# EAGLE library part MEMS_12 (library Bits_library_eagle)
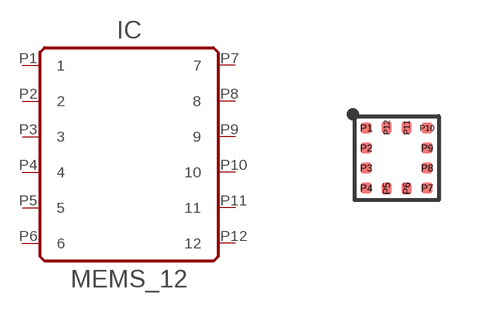
[diagram p20: symbol with the pads of LGA-12; footprint LGA-12]

Designator prefix IC

## MEMS_12  [LGA-12]
P1  1
P2  2
P3  3
P4  4
P5  5
P6  6
P7  7
P8  8
P9  9
P10  10
P11  11
P12  12

## Footprint LGA-12 (pad centres in mm)
smd 0.275 x 0.25: P1 -0.762,0.75; P2 -0.762,0.25; P3 -0.762,-0.25; P4 -0.762,-0.75; P7 0.762,-0.75; P8 0.762,-0.25; P9 0.762,0.25; P10 0.762,0.75
smd 0.25 x 0.275: P5 -0.25,-0.762; P6 0.25,-0.762; P11 0.25,0.762; P12 -0.25,0.762